# Altium footprint library 12AX7.PcbLib: 2 footprints
Each footprint in its own frame and in the unit in brackets; x right, y up, seen from the top. Pads: shape width x height; smd on the part's side, far side on the other; paste and mask are expansions set on the pad; w line width, h text height; cw(c..) or ccw(c..) is an arc to the next point about the centre after c.
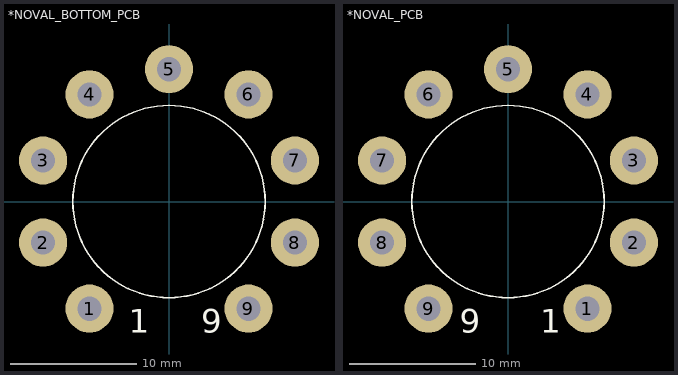
[diagram p0: the footprints below, top view; thin cyan lines are the x and y axes]

## *NOVAL_BOTTOM_PCB [mil]
pads (9):
  round 150 hole 76: 1(-248,-334) 2(-393,-128) 3(-393,128) 4(-248,334) 5(0,413) 6(248,334) 7(393,128) 8(393,-128) 9(248,-334)
Top Overlay:
  circle w5: c0,0 r300
  text "1" at -125,-409.84 h73.82
  text "9" at 100,-409.84 h73.82
Bottom Overlay:
  circle w5: c0,0 r300
3D body "final.STEP": height -414.84, standoff -2653.45, extent -420,-429.45 428.01,419.45
3D body "Tube Socket - PCB v2.step": height 89.35, standoff -484.25, extent -354.33,-354.33 354.33,354.33

## *NOVAL_PCB [mil]
pads (9):
  round 150 hole 76: 1(248,-334) 2(393,-128) 3(393,128) 4(248,334) 5(0,413) 6(-248,334) 7(-393,128) 8(-393,-128) 9(-248,-334)
Top Overlay:
  circle w5: c0,0 r300
  text "1" at 100,-409.84 h73.82
  text "9" at -150,-409.84 h73.82
Bottom Overlay:
  circle w5: c0,0 r300
3D body "final.STEP": height 2653.45, standoff 414.84, extent -418.01,-424.45 430,424.45
3D body "Tube Socket - PCB v2.step": height 484.25, standoff -89.35, extent -354.33,-354.33 354.33,354.33